# Altium integrated library Linear Technology Power Management Switching Regulator LT1074-LT8705.IntLib: 2252 symbols (part 42 of 148)
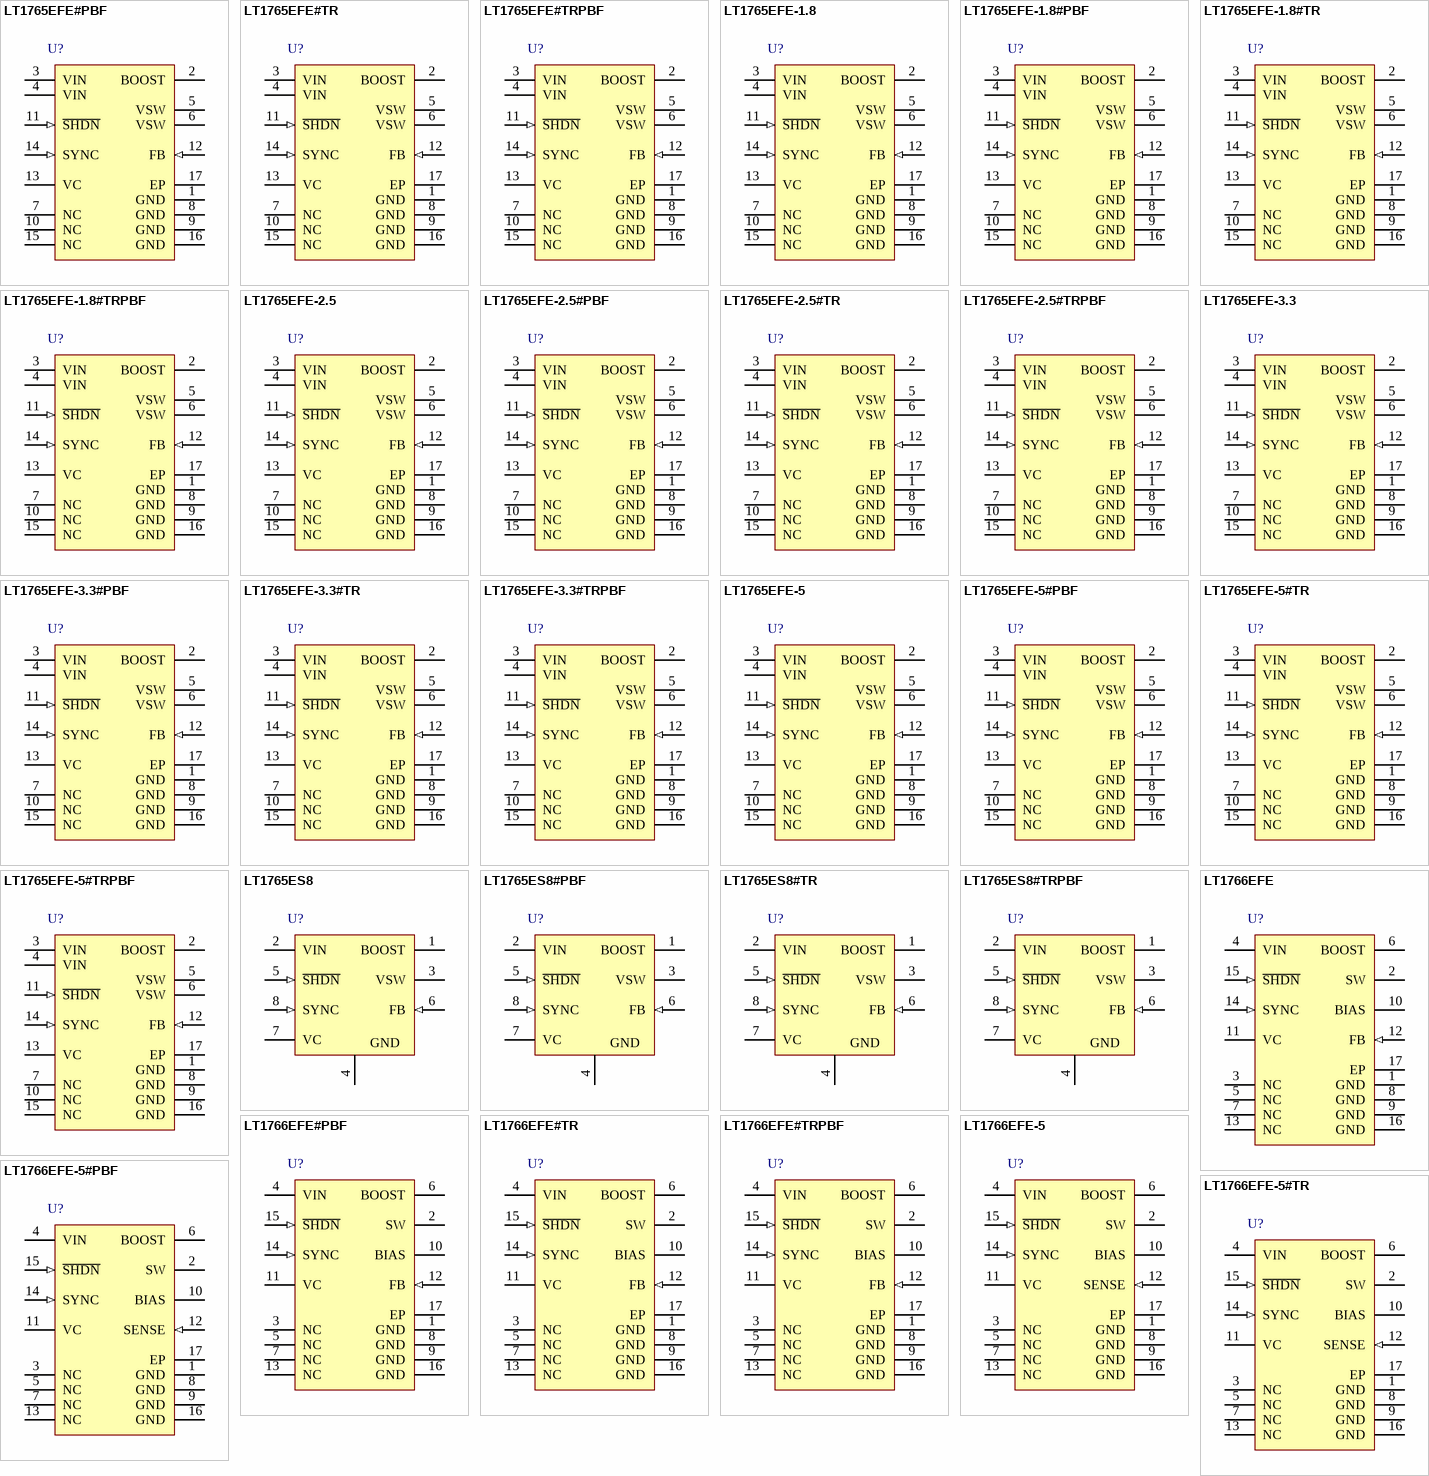
[diagram p112: symbols LT1765EFE#PBF to LT1766EFE-5#TR]

## LT1765EFE-5#PBF
designator U?
Monolithic 3 A, 1.25 MHz Step-Down Switching Regulator, 16-pin SOP (FE-16-EPV-BB), -40 to 125 degC, Pb-Free; Manufacturer: Linear Technology; PartNumber: LT1765EFE-5#PBF; Frequency Sync Range: 1.6MHz - 2MHz; Number of Outputs: 1; DatasheetVersion: Rev. D; PackageVersion: Rev. J, 11/2012; PackageReference: FE-16; PackageDescription: 16-Pin Plastic TSSOP, Body 5 x 4.4 mm, Pitch 0.65 mm; Supplier 1: Digi-Key; Supplier Part Number 1: LT1765EFE-5#PBF-ND; Supplier 2: Farnell; Supplier Part Number 2: 1663486; Supplier 3: Newark; Supplier Part Number 3: 57M6196; RoHS: TRUE; Mounting Technology: Surface Mount; ComponentLink1Description: Manufacturer URL; ComponentLink1URL: http://www.linear.com/; ComponentLink2Description: Datasheet; ComponentLink2URL: http://cds.linear.com/docs/en/datasheet/1765fd.pdf; ComponentLink3Description: Package Specification; ComponentLink3URL: http://cds.linear.com/docs/en/packaging/05081663__J_FE16(BB).pdf
footprint LT-FE-16-EPV-BB_N (SOP, 16-Leads, Body 5.1x4.5mm, Pitch 0.65mm, Thermal Pad 3.58x2.94mm, IPC Medium Density)
footprint LT-FE-16-EPV-BB_L (SOP, 16-Leads, Body 5.1x4.5mm, Pitch 0.65mm, Thermal Pad 3.58x2.94mm, IPC High Density)
footprint LT-FE-16-EPV-BB_M (SOP, 16-Leads, Body 5.1x4.5mm, Pitch 0.65mm, Thermal Pad 3.58x2.94mm, IPC Low Density)
pins: 1 GND (power) "The GND pin acts as the reference for the regulated output, so load regulation will suffer if the “ground?end of the load is not at the same voltage as the GND pin of the IC. This condition will occur when load curr(See Datasheet)", 2 BOOST "The BOOST pin is used to provide a drive voltage, higher than the input voltage, to the internal bipolar NPN power switch.", 3 VIN (power) "This is the collector of the on-chip power NPN switch. This pin powers the internal circuitry and internal regulator. At NPN switch on and off, high di/dt edges occur on this pin. Keep the external bypass capacitor and catch (See Datasheet)", 4 VIN (power) "This is the collector of the on-chip power NPN switch. This pin powers the internal circuitry and internal regulator. At NPN switch on and off, high di/dt edges occur on this pin. Keep the external bypass capacitor and catch (See Datasheet)", 5 VSW (power) "The switch pin is the emitter of the on-chip power NPN switch. This pin is driven up to the input pin voltage during switch on time. Inductor current drives the switch pin negative during switch off time. Negative voltage (See Datasheet)", 6 VSW (power) "The switch pin is the emitter of the on-chip power NPN switch. This pin is driven up to the input pin voltage during switch on time. Inductor current drives the switch pin negative during switch off time. Negative voltage (See Datasheet)", 7 NC, 8 GND (power) "The GND pin acts as the reference for the regulated output, so load regulation will suffer if the “ground?end of the load is not at the same voltage as the GND pin of the IC. This condition will occur when load curr(See Datasheet)", 9 GND (power) "The GND pin acts as the reference for the regulated output, so load regulation will suffer if the “ground?end of the load is not at the same voltage as the GND pin of the IC. This condition will occur when load curr(See Datasheet)", 10 NC, 11 ~{SHDN} (in) "The shutdown pin is used to turn off the regulator and to reduce input drain current to a few microamperes. The 1.33V threshold can function as an accurate undervoltage lockout (UVLO), preventing the regulator from operating (See Datasheet)", 12 FB (in) "The feedback pin is used to set output voltage using an external voltage divider (adjustable version) that generates 1.2V at the pin when connected to the desired output voltage. The fixed voltage 1.8V, 2.5V, 3.3V and 5V (See Datasheet)", 13 VC "The VC pin is the output of the error amplifier and the input of the peak switch current comparator. It is normally used for frequency compensation, but can do double duty as a current clamp or control loop override. This (See Datasheet)", 14 SYNC (in) "The sync pin is used to synchronize the internal oscillator to an external signal. It is directly logic compatible and can be driven with any signal between 20% and 80% duty cycle. The synchronizing range is from 1.6MHz to (See Datasheet)", 15 NC, 16 GND (power) "The GND pin acts as the reference for the regulated output, so load regulation will suffer if the “ground?end of the load is not at the same voltage as the GND pin of the IC. This condition will occur when load curr(See Datasheet)", 17 EP (power) "The exposed GND pad and/or GND pins of the package are directly attached to the internal tab. These pins/pad should be attached to a large copper area to reduce thermal resistance."

## LT1765EFE-5#TR
designator U?
Monolithic 3 A, 1.25 MHz Step-Down Switching Regulator, 16-pin SOP (FE-16-EPV-BB), -40 to 125 degC, Tape and Reel; Manufacturer: Linear Technology; PartNumber: LT1765EFE-5#TR; Frequency Sync Range: 1.6MHz - 2MHz; Number of Outputs: 1; DatasheetVersion: Rev. D; PackageVersion: Rev. J, 11/2012; PackageReference: FE-16; PackageDescription: 16-Pin Plastic TSSOP, Body 5 x 4.4 mm, Pitch 0.65 mm; Supplier 1: Digi-Key; Supplier Part Number 1: LT1765EFE-5#TR-ND; Packing: Tape and Reel; RoHS: FALSE; Mounting Technology: Surface Mount; ComponentLink1Description: Manufacturer URL; ComponentLink1URL: http://www.linear.com/; ComponentLink2Description: Datasheet; ComponentLink2URL: http://cds.linear.com/docs/en/datasheet/1765fd.pdf; ComponentLink3Description: Package Specification; ComponentLink3URL: http://cds.linear.com/docs/en/packaging/05081663__J_FE16(BB).pdf
footprint LT-FE-16-EPV-BB_N (SOP, 16-Leads, Body 5.1x4.5mm, Pitch 0.65mm, Thermal Pad 3.58x2.94mm, IPC Medium Density)
footprint LT-FE-16-EPV-BB_L (SOP, 16-Leads, Body 5.1x4.5mm, Pitch 0.65mm, Thermal Pad 3.58x2.94mm, IPC High Density)
footprint LT-FE-16-EPV-BB_M (SOP, 16-Leads, Body 5.1x4.5mm, Pitch 0.65mm, Thermal Pad 3.58x2.94mm, IPC Low Density)
pins: 1 GND (power) "The GND pin acts as the reference for the regulated output, so load regulation will suffer if the “ground?end of the load is not at the same voltage as the GND pin of the IC. This condition will occur when load curr(See Datasheet)", 2 BOOST "The BOOST pin is used to provide a drive voltage, higher than the input voltage, to the internal bipolar NPN power switch.", 3 VIN (power) "This is the collector of the on-chip power NPN switch. This pin powers the internal circuitry and internal regulator. At NPN switch on and off, high di/dt edges occur on this pin. Keep the external bypass capacitor and catch (See Datasheet)", 4 VIN (power) "This is the collector of the on-chip power NPN switch. This pin powers the internal circuitry and internal regulator. At NPN switch on and off, high di/dt edges occur on this pin. Keep the external bypass capacitor and catch (See Datasheet)", 5 VSW (power) "The switch pin is the emitter of the on-chip power NPN switch. This pin is driven up to the input pin voltage during switch on time. Inductor current drives the switch pin negative during switch off time. Negative voltage (See Datasheet)", 6 VSW (power) "The switch pin is the emitter of the on-chip power NPN switch. This pin is driven up to the input pin voltage during switch on time. Inductor current drives the switch pin negative during switch off time. Negative voltage (See Datasheet)", 7 NC, 8 GND (power) "The GND pin acts as the reference for the regulated output, so load regulation will suffer if the “ground?end of the load is not at the same voltage as the GND pin of the IC. This condition will occur when load curr(See Datasheet)", 9 GND (power) "The GND pin acts as the reference for the regulated output, so load regulation will suffer if the “ground?end of the load is not at the same voltage as the GND pin of the IC. This condition will occur when load curr(See Datasheet)", 10 NC, 11 ~{SHDN} (in) "The shutdown pin is used to turn off the regulator and to reduce input drain current to a few microamperes. The 1.33V threshold can function as an accurate undervoltage lockout (UVLO), preventing the regulator from operating (See Datasheet)", 12 FB (in) "The feedback pin is used to set output voltage using an external voltage divider (adjustable version) that generates 1.2V at the pin when connected to the desired output voltage. The fixed voltage 1.8V, 2.5V, 3.3V and 5V (See Datasheet)", 13 VC "The VC pin is the output of the error amplifier and the input of the peak switch current comparator. It is normally used for frequency compensation, but can do double duty as a current clamp or control loop override. This (See Datasheet)", 14 SYNC (in) "The sync pin is used to synchronize the internal oscillator to an external signal. It is directly logic compatible and can be driven with any signal between 20% and 80% duty cycle. The synchronizing range is from 1.6MHz to (See Datasheet)", 15 NC, 16 GND (power) "The GND pin acts as the reference for the regulated output, so load regulation will suffer if the “ground?end of the load is not at the same voltage as the GND pin of the IC. This condition will occur when load curr(See Datasheet)", 17 EP (power) "The exposed GND pad and/or GND pins of the package are directly attached to the internal tab. These pins/pad should be attached to a large copper area to reduce thermal resistance."

## LT1765EFE-5#TRPBF
designator U?
Monolithic 3 A, 1.25 MHz Step-Down Switching Regulator, 16-pin SOP (FE-16-EPV-BB), -40 to 125 degC, Pb-Free, Tape and Reel; Manufacturer: Linear Technology; PartNumber: LT1765EFE-5#TRPBF; Frequency Sync Range: 1.6MHz - 2MHz; Number of Outputs: 1; DatasheetVersion: Rev. D; PackageVersion: Rev. J, 11/2012; PackageReference: FE-16; PackageDescription: 16-Pin Plastic TSSOP, Body 5 x 4.4 mm, Pitch 0.65 mm; Supplier 1: Digi-Key; Supplier Part Number 1: LT1765EFE-5#TRPBF-ND; Packing: Tape and Reel; RoHS: TRUE; Mounting Technology: Surface Mount; ComponentLink1Description: Manufacturer URL; ComponentLink1URL: http://www.linear.com/; ComponentLink2Description: Datasheet; ComponentLink2URL: http://cds.linear.com/docs/en/datasheet/1765fd.pdf; ComponentLink3Description: Package Specification; ComponentLink3URL: http://cds.linear.com/docs/en/packaging/05081663__J_FE16(BB).pdf
footprint LT-FE-16-EPV-BB_N (SOP, 16-Leads, Body 5.1x4.5mm, Pitch 0.65mm, Thermal Pad 3.58x2.94mm, IPC Medium Density)
footprint LT-FE-16-EPV-BB_L (SOP, 16-Leads, Body 5.1x4.5mm, Pitch 0.65mm, Thermal Pad 3.58x2.94mm, IPC High Density)
footprint LT-FE-16-EPV-BB_M (SOP, 16-Leads, Body 5.1x4.5mm, Pitch 0.65mm, Thermal Pad 3.58x2.94mm, IPC Low Density)
pins: 1 GND (power) "The GND pin acts as the reference for the regulated output, so load regulation will suffer if the “ground?end of the load is not at the same voltage as the GND pin of the IC. This condition will occur when load curr(See Datasheet)", 2 BOOST "The BOOST pin is used to provide a drive voltage, higher than the input voltage, to the internal bipolar NPN power switch.", 3 VIN (power) "This is the collector of the on-chip power NPN switch. This pin powers the internal circuitry and internal regulator. At NPN switch on and off, high di/dt edges occur on this pin. Keep the external bypass capacitor and catch (See Datasheet)", 4 VIN (power) "This is the collector of the on-chip power NPN switch. This pin powers the internal circuitry and internal regulator. At NPN switch on and off, high di/dt edges occur on this pin. Keep the external bypass capacitor and catch (See Datasheet)", 5 VSW (power) "The switch pin is the emitter of the on-chip power NPN switch. This pin is driven up to the input pin voltage during switch on time. Inductor current drives the switch pin negative during switch off time. Negative voltage (See Datasheet)", 6 VSW (power) "The switch pin is the emitter of the on-chip power NPN switch. This pin is driven up to the input pin voltage during switch on time. Inductor current drives the switch pin negative during switch off time. Negative voltage (See Datasheet)", 7 NC, 8 GND (power) "The GND pin acts as the reference for the regulated output, so load regulation will suffer if the “ground?end of the load is not at the same voltage as the GND pin of the IC. This condition will occur when load curr(See Datasheet)", 9 GND (power) "The GND pin acts as the reference for the regulated output, so load regulation will suffer if the “ground?end of the load is not at the same voltage as the GND pin of the IC. This condition will occur when load curr(See Datasheet)", 10 NC, 11 ~{SHDN} (in) "The shutdown pin is used to turn off the regulator and to reduce input drain current to a few microamperes. The 1.33V threshold can function as an accurate undervoltage lockout (UVLO), preventing the regulator from operating (See Datasheet)", 12 FB (in) "The feedback pin is used to set output voltage using an external voltage divider (adjustable version) that generates 1.2V at the pin when connected to the desired output voltage. The fixed voltage 1.8V, 2.5V, 3.3V and 5V (See Datasheet)", 13 VC "The VC pin is the output of the error amplifier and the input of the peak switch current comparator. It is normally used for frequency compensation, but can do double duty as a current clamp or control loop override. This (See Datasheet)", 14 SYNC (in) "The sync pin is used to synchronize the internal oscillator to an external signal. It is directly logic compatible and can be driven with any signal between 20% and 80% duty cycle. The synchronizing range is from 1.6MHz to (See Datasheet)", 15 NC, 16 GND (power) "The GND pin acts as the reference for the regulated output, so load regulation will suffer if the “ground?end of the load is not at the same voltage as the GND pin of the IC. This condition will occur when load curr(See Datasheet)", 17 EP (power) "The exposed GND pad and/or GND pins of the package are directly attached to the internal tab. These pins/pad should be attached to a large copper area to reduce thermal resistance."

## LT1765ES8
designator U?
Monolithic 3 A, 1.25 MHz Step-Down Switching Regulator, 8-pin SOIC (S8-8), -40 to 125 degC; Manufacturer: Linear Technology; PartNumber: LT1765ES8; Frequency Sync Range: 1.6MHz - 2MHz; Number of Outputs: 1; DatasheetVersion: Rev. D; PackageVersion: Rev. G, 03/2012; PackageReference: S8-8; PackageDescription: 8-Pin Plastic Small Outline (Narrow .150 Inch), Body 4.9 x 3.9 mm, Pitch 1.27 mm; Supplier 1: Digi-Key; Supplier Part Number 1: LT1765ES8-ND; Supplier 2: Newark; Supplier Part Number 2: 57M6202; RoHS: FALSE; Mounting Technology: Surface Mount; ComponentLink1Description: Manufacturer URL; ComponentLink1URL: http://www.linear.com/; ComponentLink2Description: Datasheet; ComponentLink2URL: http://cds.linear.com/docs/en/datasheet/1765fd.pdf; ComponentLink3Description: Package Specification; ComponentLink3URL: http://cds.linear.com/docs/en/packaging/05081610_G_SO8.pdf
footprint LT-S8-8_N (SOIC, 8-Leads, Body 5x4mm, Pitch 1.27mm, IPC Medium Density)
footprint LT-S8-8_L (SOIC, 8-Leads, Body 5x4mm, Pitch 1.27mm, IPC High Density)
footprint LT-S8-8_M (SOIC, 8-Leads, Body 5x4mm, Pitch 1.27mm, IPC Low Density)
pins: 1 BOOST "The BOOST pin is used to provide a drive voltage, higher than the input voltage, to the internal bipolar NPN  power switch.", 2 VIN (power) "This is the collector of the on-chip power NPN switch. This pin powers the internal circuitry and internal regulator. At NPN switch on and off, high di/dt edges occur on this pin. Keep the external bypass capacitor and catch (See Datasheet)", 3 VSW (power) "The switch pin is the emitter of the on-chip power NPN switch. This pin is driven up to the input pin voltage during switch on time. Inductor current drives the switch pin negative during switch off time. Negative voltage (See Datasheet)", 4 GND (power) "The GND pin acts as the reference for the regulated output, so load regulation will suffer if the “ground?end of the load is not at the same voltage as the GND pin of the IC. This condition will occur when load curr(See Datasheet)", 5 ~{SHDN} (in) "The shutdown pin is used to turn off the regulator and to reduce input drain current to a few microamperes. The 1.33V threshold can function as an accurate undervoltage lockout (UVLO), preventing the regulator from operating (See Datasheet)", 6 FB (in) "The feedback pin is used to set output voltage using an external voltage divider (adjustable version) that generates 1.2V at the pin when connected to the desired output voltage. The fixed voltage 1.8V, 2.5V, 3.3V and 5(See Datasheet)", 7 VC "The VC pin is the output of the error amplifier and the input of the peak switch current comparator. It is normally used for frequency compensation, but can do double duty as a current clamp or control loop override. Thi(See Datasheet)", 8 SYNC (in) "The sync pin is used to synchronize the internal oscillator to an external signal. It is directly logic compatible and can be driven with any signal between 20% and  80% duty cycle. The synchronizing range is from 1.6MHz  to (See Datasheet)"

## LT1765ES8#PBF
designator U?
Monolithic 3 A, 1.25 MHz Step-Down Switching Regulator, 8-pin SOIC (S8-8), -40 to 125 degC, Pb-Free; Manufacturer: Linear Technology; PartNumber: LT1765ES8#PBF; Frequency Sync Range: 1.6MHz - 2MHz; Number of Outputs: 1; DatasheetVersion: Rev. D; PackageVersion: Rev. G, 03/2012; PackageReference: S8-8; PackageDescription: 8-Pin Plastic Small Outline (Narrow .150 Inch), Body 4.9 x 3.9 mm, Pitch 1.27 mm; Supplier 1: Digi-Key; Supplier Part Number 1: LT1765ES8#PBF-ND; Supplier 2: Farnell; Supplier Part Number 2: 1273783; Supplier 3: Newark; Supplier Part Number 3: 57M6203; RoHS: TRUE; Mounting Technology: Surface Mount; ComponentLink1Description: Manufacturer URL; ComponentLink1URL: http://www.linear.com/; ComponentLink2Description: Datasheet; ComponentLink2URL: http://cds.linear.com/docs/en/datasheet/1765fd.pdf; ComponentLink3Description: Package Specification; ComponentLink3URL: http://cds.linear.com/docs/en/packaging/05081610_G_SO8.pdf
footprint LT-S8-8_N (SOIC, 8-Leads, Body 5x4mm, Pitch 1.27mm, IPC Medium Density)
footprint LT-S8-8_L (SOIC, 8-Leads, Body 5x4mm, Pitch 1.27mm, IPC High Density)
footprint LT-S8-8_M (SOIC, 8-Leads, Body 5x4mm, Pitch 1.27mm, IPC Low Density)
pins: 1 BOOST "The BOOST pin is used to provide a drive voltage, higher than the input voltage, to the internal bipolar NPN  power switch.", 2 VIN (power) "This is the collector of the on-chip power NPN switch. This pin powers the internal circuitry and internal regulator. At NPN switch on and off, high di/dt edges occur on this pin. Keep the external bypass capacitor and catch (See Datasheet)", 3 VSW (power) "The switch pin is the emitter of the on-chip power NPN switch. This pin is driven up to the input pin voltage during switch on time. Inductor current drives the switch pin negative during switch off time. Negative voltage (See Datasheet)", 4 GND (power) "The GND pin acts as the reference for the regulated output, so load regulation will suffer if the “ground?end of the load is not at the same voltage as the GND pin of the IC. This condition will occur when load curr(See Datasheet)", 5 ~{SHDN} (in) "The shutdown pin is used to turn off the regulator and to reduce input drain current to a few microamperes. The 1.33V threshold can function as an accurate undervoltage lockout (UVLO), preventing the regulator from operating (See Datasheet)", 6 FB (in) "The feedback pin is used to set output voltage using an external voltage divider (adjustable version) that generates 1.2V at the pin when connected to the desired output voltage. The fixed voltage 1.8V, 2.5V, 3.3V and 5(See Datasheet)", 7 VC "The VC pin is the output of the error amplifier and the input of the peak switch current comparator. It is normally used for frequency compensation, but can do double duty as a current clamp or control loop override. Thi(See Datasheet)", 8 SYNC (in) "The sync pin is used to synchronize the internal oscillator to an external signal. It is directly logic compatible and can be driven with any signal between 20% and  80% duty cycle. The synchronizing range is from 1.6MHz  to (See Datasheet)"

## LT1765ES8#TR
designator U?
Monolithic 3 A, 1.25 MHz Step-Down Switching Regulator, 8-pin SOIC (S8-8), -40 to 125 degC, Tape and Reel; Manufacturer: Linear Technology; PartNumber: LT1765ES8#TR; Frequency Sync Range: 1.6MHz - 2MHz; Number of Outputs: 1; DatasheetVersion: Rev. D; PackageVersion: Rev. G, 03/2012; PackageReference: S8-8; PackageDescription: 8-Pin Plastic Small Outline (Narrow .150 Inch), Body 4.9 x 3.9 mm, Pitch 1.27 mm; Supplier 1: Digi-Key; Supplier Part Number 1: LT1765ES8#TR-ND; Supplier 2: Newark; Supplier Part Number 2: 57M6204; Packing: Tape and Reel; RoHS: FALSE; Mounting Technology: Surface Mount; ComponentLink1Description: Manufacturer URL; ComponentLink1URL: http://www.linear.com/; ComponentLink2Description: Datasheet; ComponentLink2URL: http://cds.linear.com/docs/en/datasheet/1765fd.pdf; ComponentLink3Description: Package Specification; ComponentLink3URL: http://cds.linear.com/docs/en/packaging/05081610_G_SO8.pdf
footprint LT-S8-8_N (SOIC, 8-Leads, Body 5x4mm, Pitch 1.27mm, IPC Medium Density)
footprint LT-S8-8_L (SOIC, 8-Leads, Body 5x4mm, Pitch 1.27mm, IPC High Density)
footprint LT-S8-8_M (SOIC, 8-Leads, Body 5x4mm, Pitch 1.27mm, IPC Low Density)
pins: 1 BOOST "The BOOST pin is used to provide a drive voltage, higher than the input voltage, to the internal bipolar NPN  power switch.", 2 VIN (power) "This is the collector of the on-chip power NPN switch. This pin powers the internal circuitry and internal regulator. At NPN switch on and off, high di/dt edges occur on this pin. Keep the external bypass capacitor and catch (See Datasheet)", 3 VSW (power) "The switch pin is the emitter of the on-chip power NPN switch. This pin is driven up to the input pin voltage during switch on time. Inductor current drives the switch pin negative during switch off time. Negative voltage (See Datasheet)", 4 GND (power) "The GND pin acts as the reference for the regulated output, so load regulation will suffer if the “ground?end of the load is not at the same voltage as the GND pin of the IC. This condition will occur when load curr(See Datasheet)", 5 ~{SHDN} (in) "The shutdown pin is used to turn off the regulator and to reduce input drain current to a few microamperes. The 1.33V threshold can function as an accurate undervoltage lockout (UVLO), preventing the regulator from operating (See Datasheet)", 6 FB (in) "The feedback pin is used to set output voltage using an external voltage divider (adjustable version) that generates 1.2V at the pin when connected to the desired output voltage. The fixed voltage 1.8V, 2.5V, 3.3V and 5(See Datasheet)", 7 VC "The VC pin is the output of the error amplifier and the input of the peak switch current comparator. It is normally used for frequency compensation, but can do double duty as a current clamp or control loop override. Thi(See Datasheet)", 8 SYNC (in) "The sync pin is used to synchronize the internal oscillator to an external signal. It is directly logic compatible and can be driven with any signal between 20% and  80% duty cycle. The synchronizing range is from 1.6MHz  to (See Datasheet)"

## LT1765ES8#TRPBF
designator U?
Monolithic 3 A, 1.25 MHz Step-Down Switching Regulator, 8-pin SOIC (S8-8), -40 to 125 degC, Pb-Free, Tape and Reel; Manufacturer: Linear Technology; PartNumber: LT1765ES8#TRPBF; Frequency Sync Range: 1.6MHz - 2MHz; Number of Outputs: 1; DatasheetVersion: Rev. D; PackageVersion: Rev. G, 03/2012; PackageReference: S8-8; PackageDescription: 8-Pin Plastic Small Outline (Narrow .150 Inch), Body 4.9 x 3.9 mm, Pitch 1.27 mm; Supplier 1: Digi-Key; Supplier Part Number 1: LT1765ES8#TRPBF-ND; Supplier 2: Newark; Supplier Part Number 2: 57M6205; Packing: Tape and Reel; RoHS: TRUE; Mounting Technology: Surface Mount; ComponentLink1Description: Manufacturer URL; ComponentLink1URL: http://www.linear.com/; ComponentLink2Description: Datasheet; ComponentLink2URL: http://cds.linear.com/docs/en/datasheet/1765fd.pdf; ComponentLink3Description: Package Specification; ComponentLink3URL: http://cds.linear.com/docs/en/packaging/05081610_G_SO8.pdf
footprint LT-S8-8_N (SOIC, 8-Leads, Body 5x4mm, Pitch 1.27mm, IPC Medium Density)
footprint LT-S8-8_L (SOIC, 8-Leads, Body 5x4mm, Pitch 1.27mm, IPC High Density)
footprint LT-S8-8_M (SOIC, 8-Leads, Body 5x4mm, Pitch 1.27mm, IPC Low Density)
pins: 1 BOOST "The BOOST pin is used to provide a drive voltage, higher than the input voltage, to the internal bipolar NPN  power switch.", 2 VIN (power) "This is the collector of the on-chip power NPN switch. This pin powers the internal circuitry and internal regulator. At NPN switch on and off, high di/dt edges occur on this pin. Keep the external bypass capacitor and catch (See Datasheet)", 3 VSW (power) "The switch pin is the emitter of the on-chip power NPN switch. This pin is driven up to the input pin voltage during switch on time. Inductor current drives the switch pin negative during switch off time. Negative voltage (See Datasheet)", 4 GND (power) "The GND pin acts as the reference for the regulated output, so load regulation will suffer if the “ground?end of the load is not at the same voltage as the GND pin of the IC. This condition will occur when load curr(See Datasheet)", 5 ~{SHDN} (in) "The shutdown pin is used to turn off the regulator and to reduce input drain current to a few microamperes. The 1.33V threshold can function as an accurate undervoltage lockout (UVLO), preventing the regulator from operating (See Datasheet)", 6 FB (in) "The feedback pin is used to set output voltage using an external voltage divider (adjustable version) that generates 1.2V at the pin when connected to the desired output voltage. The fixed voltage 1.8V, 2.5V, 3.3V and 5(See Datasheet)", 7 VC "The VC pin is the output of the error amplifier and the input of the peak switch current comparator. It is normally used for frequency compensation, but can do double duty as a current clamp or control loop override. Thi(See Datasheet)", 8 SYNC (in) "The sync pin is used to synchronize the internal oscillator to an external signal. It is directly logic compatible and can be driven with any signal between 20% and  80% duty cycle. The synchronizing range is from 1.6MHz  to (See Datasheet)"

## LT1766EFE
designator U?
1.5 A, 200 kHz Step-Down Switching Regulator, 16-pin SOP (FE-16-EPV-BB), 0 to 125 degC; Manufacturer: Linear Technology; PartNumber: LT1766EFE; Frequency Sync Range: 228kHz - 700kHz; Number of Outputs: 1; DatasheetVersion: Rev. C; PackageVersion: Rev. J, 11/2012; PackageReference: FE-16; PackageDescription: 16-Pin Plastic TSSOP, Body 5 x 4.4 mm, Pitch 0.65 mm; Supplier 1: Digi-Key; Supplier Part Number 1: LT1766EFE-ND; RoHS: FALSE; Mounting Technology: Surface Mount; ComponentLink1Description: Manufacturer URL; ComponentLink1URL: http://www.linear.com/; ComponentLink2Description: Datasheet; ComponentLink2URL: http://cds.linear.com/docs/en/datasheet/1766fc.pdf; ComponentLink3Description: Package Specification; ComponentLink3URL: http://cds.linear.com/docs/en/packaging/05081663__J_FE16(BB).pdf
footprint LT-FE-16-EPV-BB_N (SOP, 16-Leads, Body 5.1x4.5mm, Pitch 0.65mm, Thermal Pad 3.58x2.94mm, IPC Medium Density)
footprint LT-FE-16-EPV-BB_L (SOP, 16-Leads, Body 5.1x4.5mm, Pitch 0.65mm, Thermal Pad 3.58x2.94mm, IPC High Density)
footprint LT-FE-16-EPV-BB_M (SOP, 16-Leads, Body 5.1x4.5mm, Pitch 0.65mm, Thermal Pad 3.58x2.94mm, IPC Low Density)
pins: 1 GND (power) "The GND pin connections act as the reference for the regulated output, so load regulation will suffer if the ground end of the load is not at the  same voltage as the GND pins of the IC. This condition will occur when load (See Datasheet)", 2 SW (power) "The switch pin is the emitter of the on-chip power NPN switch. This pin is driven up to the input pin voltage during switch on-time. Inductor current drives the switch pin negative during switch off-time. Negative voltage is (See Datasheet)", 3 NC "No Connection.", 4 VIN (power) "This is the collector of the on-chip power NPN switch. VIN powers the internal control circuitry when a voltage on the BIAS pin is not present. High dI/dt edges occur on this pin during switch turn on and off. Keep the path (See Datasheet)", 5 NC "No Connection.", 6 BOOST "The BOOST pin is used to provide a drive voltage, higher than the input voltage, to the internal bipolar NPN power switch. Without this added voltage, the typical switch voltage loss would be about 1.5V. The additional BOOST (See Datasheet)", 7 NC "No Connection.", 8 GND (power) "The GND pin connections act as the reference for the regulated output, so load regulation will suffer if the ground end of the load is not at the  same voltage as the GND pins of the IC. This condition will occur when load (See Datasheet)", 9 GND (power) "The GND pin connections act as the reference for the regulated output, so load regulation will suffer if the ground end of the load is not at the  same voltage as the GND pins of the IC. This condition will occur when load (See Datasheet)", 10 BIAS (power) "The BIAS pin is used to improve ef?ciency when operating at higher input voltages and light load current. Connecting this pin to the regulated output voltage forces most of the internal circuitry to draw its operating (See Datasheet)", 11 VC, 12 FB (in) "The feedback pin is used to set the output voltage using an external voltage divider that generates 1.22V at the pin for the desired output voltage. The 5V fixed output voltage parts have the divider included on the chip and (See Datasheet)", 13 NC "No Connection.", 14 SYNC (in) "The SYNC pin is used to synchronize the internal oscillator to an external signal. It is directly logic compatible and can be driven with any signal between 10% and 90% duty cycle. The synchronizing range is equal to initial (See Datasheet)", 15 ~{SHDN} (in) "The S\H\D\N\ pin is used to turn off the regulator and to reduce input drain current to a few microamperes. This pin has two thresholds: one at 2.38V to disable switching and a second at 0.4V to force complete  micropower (See Datasheet)", 16 GND (power) "The GND pin connections act as the reference for the regulated output, so load regulation will suffer if the ground end of the load is not at the  same voltage as the GND pins of the IC. This condition will occur when load (See Datasheet)", 17 EP (power) "The GND pin connections act as the reference for the regulated output, so load regulation will suffer if the ground end of the load is not at the  same voltage as the GND pins of the IC. This condition will occur when load (See Datasheet)"

## LT1766EFE#PBF
designator U?
1.5 A, 200 kHz Step-Down Switching Regulator, 16-pin SOP (FE-16-EPV-BB), 0 to 125 degC, Pb-Free; Manufacturer: Linear Technology; PartNumber: LT1766EFE#PBF; Frequency Sync Range: 228kHz - 700kHz; Number of Outputs: 1; DatasheetVersion: Rev. C; PackageVersion: Rev. J, 11/2012; PackageReference: FE-16; PackageDescription: 16-Pin Plastic TSSOP, Body 5 x 4.4 mm, Pitch 0.65 mm; Supplier 1: Digi-Key; Supplier Part Number 1: LT1766EFE#PBF-ND; Supplier 2: Farnell; Supplier Part Number 2: 1273785; Supplier 3: Newark; Supplier Part Number 3: 57M6211; RoHS: TRUE; Mounting Technology: Surface Mount; ComponentLink1Description: Manufacturer URL; ComponentLink1URL: http://www.linear.com/; ComponentLink2Description: Datasheet; ComponentLink2URL: http://cds.linear.com/docs/en/datasheet/1766fc.pdf; ComponentLink3Description: Package Specification; ComponentLink3URL: http://cds.linear.com/docs/en/packaging/05081663__J_FE16(BB).pdf
footprint LT-FE-16-EPV-BB_N (SOP, 16-Leads, Body 5.1x4.5mm, Pitch 0.65mm, Thermal Pad 3.58x2.94mm, IPC Medium Density)
footprint LT-FE-16-EPV-BB_L (SOP, 16-Leads, Body 5.1x4.5mm, Pitch 0.65mm, Thermal Pad 3.58x2.94mm, IPC High Density)
footprint LT-FE-16-EPV-BB_M (SOP, 16-Leads, Body 5.1x4.5mm, Pitch 0.65mm, Thermal Pad 3.58x2.94mm, IPC Low Density)
pins: 1 GND (power) "The GND pin connections act as the reference for the regulated output, so load regulation will suffer if the ground end of the load is not at the  same voltage as the GND pins of the IC. This condition will occur when load (See Datasheet)", 2 SW (power) "The switch pin is the emitter of the on-chip power NPN switch. This pin is driven up to the input pin voltage during switch on-time. Inductor current drives the switch pin negative during switch off-time. Negative voltage is (See Datasheet)", 3 NC "No Connection.", 4 VIN (power) "This is the collector of the on-chip power NPN switch. VIN powers the internal control circuitry when a voltage on the BIAS pin is not present. High dI/dt edges occur on this pin during switch turn on and off. Keep the path (See Datasheet)", 5 NC "No Connection.", 6 BOOST "The BOOST pin is used to provide a drive voltage, higher than the input voltage, to the internal bipolar NPN power switch. Without this added voltage, the typical switch voltage loss would be about 1.5V. The additional BOOST (See Datasheet)", 7 NC "No Connection.", 8 GND (power) "The GND pin connections act as the reference for the regulated output, so load regulation will suffer if the ground end of the load is not at the  same voltage as the GND pins of the IC. This condition will occur when load (See Datasheet)", 9 GND (power) "The GND pin connections act as the reference for the regulated output, so load regulation will suffer if the ground end of the load is not at the  same voltage as the GND pins of the IC. This condition will occur when load (See Datasheet)", 10 BIAS (power) "The BIAS pin is used to improve ef?ciency when operating at higher input voltages and light load current. Connecting this pin to the regulated output voltage forces most of the internal circuitry to draw its operating (See Datasheet)", 11 VC, 12 FB (in) "The feedback pin is used to set the output voltage using an external voltage divider that generates 1.22V at the pin for the desired output voltage. The 5V fixed output voltage parts have the divider included on the chip and (See Datasheet)", 13 NC "No Connection.", 14 SYNC (in) "The SYNC pin is used to synchronize the internal oscillator to an external signal. It is directly logic compatible and can be driven with any signal between 10% and 90% duty cycle. The synchronizing range is equal to initial (See Datasheet)", 15 ~{SHDN} (in) "The S\H\D\N\ pin is used to turn off the regulator and to reduce input drain current to a few microamperes. This pin has two thresholds: one at 2.38V to disable switching and a second at 0.4V to force complete  micropower (See Datasheet)", 16 GND (power) "The GND pin connections act as the reference for the regulated output, so load regulation will suffer if the ground end of the load is not at the  same voltage as the GND pins of the IC. This condition will occur when load (See Datasheet)", 17 EP (power) "The GND pin connections act as the reference for the regulated output, so load regulation will suffer if the ground end of the load is not at the  same voltage as the GND pins of the IC. This condition will occur when load (See Datasheet)"

## LT1766EFE#TR
designator U?
1.5 A, 200 kHz Step-Down Switching Regulator, 16-pin SOP (FE-16-EPV-BB), 0 to 125 degC, Tape and Reel; Manufacturer: Linear Technology; PartNumber: LT1766EFE#TR; Frequency Sync Range: 228kHz - 700kHz; Number of Outputs: 1; DatasheetVersion: Rev. C; PackageVersion: Rev. J, 11/2012; PackageReference: FE-16; PackageDescription: 16-Pin Plastic TSSOP, Body 5 x 4.4 mm, Pitch 0.65 mm; Supplier 1: Digi-Key; Supplier Part Number 1: LT1766EFE#TR-ND; Packing: Tape and Reel; RoHS: FALSE; Mounting Technology: Surface Mount; ComponentLink1Description: Manufacturer URL; ComponentLink1URL: http://www.linear.com/; ComponentLink2Description: Datasheet; ComponentLink2URL: http://cds.linear.com/docs/en/datasheet/1766fc.pdf; ComponentLink3Description: Package Specification; ComponentLink3URL: http://cds.linear.com/docs/en/packaging/05081663__J_FE16(BB).pdf
footprint LT-FE-16-EPV-BB_N (SOP, 16-Leads, Body 5.1x4.5mm, Pitch 0.65mm, Thermal Pad 3.58x2.94mm, IPC Medium Density)
footprint LT-FE-16-EPV-BB_L (SOP, 16-Leads, Body 5.1x4.5mm, Pitch 0.65mm, Thermal Pad 3.58x2.94mm, IPC High Density)
footprint LT-FE-16-EPV-BB_M (SOP, 16-Leads, Body 5.1x4.5mm, Pitch 0.65mm, Thermal Pad 3.58x2.94mm, IPC Low Density)
pins: 1 GND (power) "The GND pin connections act as the reference for the regulated output, so load regulation will suffer if the ground end of the load is not at the  same voltage as the GND pins of the IC. This condition will occur when load (See Datasheet)", 2 SW (power) "The switch pin is the emitter of the on-chip power NPN switch. This pin is driven up to the input pin voltage during switch on-time. Inductor current drives the switch pin negative during switch off-time. Negative voltage is (See Datasheet)", 3 NC "No Connection.", 4 VIN (power) "This is the collector of the on-chip power NPN switch. VIN powers the internal control circuitry when a voltage on the BIAS pin is not present. High dI/dt edges occur on this pin during switch turn on and off. Keep the path (See Datasheet)", 5 NC "No Connection.", 6 BOOST "The BOOST pin is used to provide a drive voltage, higher than the input voltage, to the internal bipolar NPN power switch. Without this added voltage, the typical switch voltage loss would be about 1.5V. The additional BOOST (See Datasheet)", 7 NC "No Connection.", 8 GND (power) "The GND pin connections act as the reference for the regulated output, so load regulation will suffer if the ground end of the load is not at the  same voltage as the GND pins of the IC. This condition will occur when load (See Datasheet)", 9 GND (power) "The GND pin connections act as the reference for the regulated output, so load regulation will suffer if the ground end of the load is not at the  same voltage as the GND pins of the IC. This condition will occur when load (See Datasheet)", 10 BIAS (power) "The BIAS pin is used to improve ef?ciency when operating at higher input voltages and light load current. Connecting this pin to the regulated output voltage forces most of the internal circuitry to draw its operating (See Datasheet)", 11 VC, 12 FB (in) "The feedback pin is used to set the output voltage using an external voltage divider that generates 1.22V at the pin for the desired output voltage. The 5V fixed output voltage parts have the divider included on the chip and (See Datasheet)", 13 NC "No Connection.", 14 SYNC (in) "The SYNC pin is used to synchronize the internal oscillator to an external signal. It is directly logic compatible and can be driven with any signal between 10% and 90% duty cycle. The synchronizing range is equal to initial (See Datasheet)", 15 ~{SHDN} (in) "The S\H\D\N\ pin is used to turn off the regulator and to reduce input drain current to a few microamperes. This pin has two thresholds: one at 2.38V to disable switching and a second at 0.4V to force complete  micropower (See Datasheet)", 16 GND (power) "The GND pin connections act as the reference for the regulated output, so load regulation will suffer if the ground end of the load is not at the  same voltage as the GND pins of the IC. This condition will occur when load (See Datasheet)", 17 EP (power) "The GND pin connections act as the reference for the regulated output, so load regulation will suffer if the ground end of the load is not at the  same voltage as the GND pins of the IC. This condition will occur when load (See Datasheet)"

## LT1766EFE#TRPBF
designator U?
1.5 A, 200 kHz Step-Down Switching Regulator, 16-pin SOP (FE-16-EPV-BB), 0 to 125 degC, Pb-Free, Tape and Reel; Manufacturer: Linear Technology; PartNumber: LT1766EFE#TRPBF; Frequency Sync Range: 228kHz - 700kHz; Number of Outputs: 1; DatasheetVersion: Rev. C; PackageVersion: Rev. J, 11/2012; PackageReference: FE-16; PackageDescription: 16-Pin Plastic TSSOP, Body 5 x 4.4 mm, Pitch 0.65 mm; Supplier 1: Digi-Key; Supplier Part Number 1: LT1766EFE#TRPBF-ND; Supplier 2: Newark; Supplier Part Number 2: 57M6213; Packing: Tape and Reel; RoHS: TRUE; Mounting Technology: Surface Mount; ComponentLink1Description: Manufacturer URL; ComponentLink1URL: http://www.linear.com/; ComponentLink2Description: Datasheet; ComponentLink2URL: http://cds.linear.com/docs/en/datasheet/1766fc.pdf; ComponentLink3Description: Package Specification; ComponentLink3URL: http://cds.linear.com/docs/en/packaging/05081663__J_FE16(BB).pdf
footprint LT-FE-16-EPV-BB_N (SOP, 16-Leads, Body 5.1x4.5mm, Pitch 0.65mm, Thermal Pad 3.58x2.94mm, IPC Medium Density)
footprint LT-FE-16-EPV-BB_L (SOP, 16-Leads, Body 5.1x4.5mm, Pitch 0.65mm, Thermal Pad 3.58x2.94mm, IPC High Density)
footprint LT-FE-16-EPV-BB_M (SOP, 16-Leads, Body 5.1x4.5mm, Pitch 0.65mm, Thermal Pad 3.58x2.94mm, IPC Low Density)
pins: 1 GND (power) "The GND pin connections act as the reference for the regulated output, so load regulation will suffer if the ground end of the load is not at the  same voltage as the GND pins of the IC. This condition will occur when load (See Datasheet)", 2 SW (power) "The switch pin is the emitter of the on-chip power NPN switch. This pin is driven up to the input pin voltage during switch on-time. Inductor current drives the switch pin negative during switch off-time. Negative voltage is (See Datasheet)", 3 NC "No Connection.", 4 VIN (power) "This is the collector of the on-chip power NPN switch. VIN powers the internal control circuitry when a voltage on the BIAS pin is not present. High dI/dt edges occur on this pin during switch turn on and off. Keep the path (See Datasheet)", 5 NC "No Connection.", 6 BOOST "The BOOST pin is used to provide a drive voltage, higher than the input voltage, to the internal bipolar NPN power switch. Without this added voltage, the typical switch voltage loss would be about 1.5V. The additional BOOST (See Datasheet)", 7 NC "No Connection.", 8 GND (power) "The GND pin connections act as the reference for the regulated output, so load regulation will suffer if the ground end of the load is not at the  same voltage as the GND pins of the IC. This condition will occur when load (See Datasheet)", 9 GND (power) "The GND pin connections act as the reference for the regulated output, so load regulation will suffer if the ground end of the load is not at the  same voltage as the GND pins of the IC. This condition will occur when load (See Datasheet)", 10 BIAS (power) "The BIAS pin is used to improve ef?ciency when operating at higher input voltages and light load current. Connecting this pin to the regulated output voltage forces most of the internal circuitry to draw its operating (See Datasheet)", 11 VC, 12 FB (in) "The feedback pin is used to set the output voltage using an external voltage divider that generates 1.22V at the pin for the desired output voltage. The 5V fixed output voltage parts have the divider included on the chip and (See Datasheet)", 13 NC "No Connection.", 14 SYNC (in) "The SYNC pin is used to synchronize the internal oscillator to an external signal. It is directly logic compatible and can be driven with any signal between 10% and 90% duty cycle. The synchronizing range is equal to initial (See Datasheet)", 15 ~{SHDN} (in) "The S\H\D\N\ pin is used to turn off the regulator and to reduce input drain current to a few microamperes. This pin has two thresholds: one at 2.38V to disable switching and a second at 0.4V to force complete  micropower (See Datasheet)", 16 GND (power) "The GND pin connections act as the reference for the regulated output, so load regulation will suffer if the ground end of the load is not at the  same voltage as the GND pins of the IC. This condition will occur when load (See Datasheet)", 17 EP (power) "The GND pin connections act as the reference for the regulated output, so load regulation will suffer if the ground end of the load is not at the  same voltage as the GND pins of the IC. This condition will occur when load (See Datasheet)"

## LT1766EFE-5
designator U?
1.5 A, 200 kHz Step-Down Switching Regulator, 16-pin SOP (FE-16-EPV-BB), 0 to 125 degC; Manufacturer: Linear Technology; PartNumber: LT1766EFE-5; Frequency Sync Range: 228kHz - 700kHz; Number of Outputs: 1; DatasheetVersion: Rev. C; PackageVersion: Rev. J, 11/2012; PackageReference: FE-16; PackageDescription: 16-Pin Plastic TSSOP, Body 5 x 4.4 mm, Pitch 0.65 mm; Supplier 1: Digi-Key; Supplier Part Number 1: LT1766EFE-5-ND; RoHS: FALSE; Mounting Technology: Surface Mount; ComponentLink1Description: Manufacturer URL; ComponentLink1URL: http://www.linear.com/; ComponentLink2Description: Datasheet; ComponentLink2URL: http://cds.linear.com/docs/en/datasheet/1766fc.pdf; ComponentLink3Description: Package Specification; ComponentLink3URL: http://cds.linear.com/docs/en/packaging/05081663__J_FE16(BB).pdf
footprint LT-FE-16-EPV-BB_N (SOP, 16-Leads, Body 5.1x4.5mm, Pitch 0.65mm, Thermal Pad 3.58x2.94mm, IPC Medium Density)
footprint LT-FE-16-EPV-BB_L (SOP, 16-Leads, Body 5.1x4.5mm, Pitch 0.65mm, Thermal Pad 3.58x2.94mm, IPC High Density)
footprint LT-FE-16-EPV-BB_M (SOP, 16-Leads, Body 5.1x4.5mm, Pitch 0.65mm, Thermal Pad 3.58x2.94mm, IPC Low Density)
pins: 1 GND (power) "The GND pin connections act as the reference for the regulated output, so load regulation will suffer if the ground end of the load is not at the  same voltage as the GND pins of the IC. This condition will occur when load (See Datasheet)", 2 SW (power) "The switch pin is the emitter of the on-chip power NPN switch. This pin is driven up to the input pin voltage during switch on-time. Inductor current drives the switch pin negative during switch off-time. Negative voltage is (See Datasheet)", 3 NC "No Connection.", 4 VIN (power) "This is the collector of the on-chip power NPN switch. VIN powers the internal control circuitry when a voltage on the BIAS pin is not present. High dI/dt edges occur on this pin during switch turn on and off. Keep the path (See Datasheet)", 5 NC "No Connection.", 6 BOOST "The BOOST pin is used to provide a drive voltage, higher than the input voltage, to the internal bipolar NPN power switch. Without this added voltage, the typical switch voltage loss would be about 1.5V. The additional BOOST (See Datasheet)", 7 NC "No Connection.", 8 GND (power) "The GND pin connections act as the reference for the regulated output, so load regulation will suffer if the ground end of the load is not at the  same voltage as the GND pins of the IC. This condition will occur when load (See Datasheet)", 9 GND (power) "The GND pin connections act as the reference for the regulated output, so load regulation will suffer if the ground end of the load is not at the  same voltage as the GND pins of the IC. This condition will occur when load (See Datasheet)", 10 BIAS (power) "The BIAS pin is used to improve ef?ciency when operating at higher input voltages and light load current. Connecting this pin to the regulated output voltage forces most of the internal circuitry to draw its operating (See Datasheet)", 11 VC, 12 SENSE (in) "The feedback pin is used to set the output voltage using an external voltage divider that generates 1.22V at the pin for the desired output voltage. The 5V fixed output voltage parts have the divider included on the chip and (See Datasheet)", 13 NC "No Connection.", 14 SYNC (in) "The SYNC pin is used to synchronize the internal oscillator to an external signal. It is directly logic compatible and can be driven with any signal between 10% and 90% duty cycle. The synchronizing range is equal to initial (See Datasheet)", 15 ~{SHDN} (in) "The S\H\D\N\ pin is used to turn off the regulator and to reduce input drain current to a few microamperes. This pin has two thresholds: one at 2.38V to disable switching and a second at 0.4V to force complete  micropower (See Datasheet)", 16 GND (power) "The GND pin connections act as the reference for the regulated output, so load regulation will suffer if the ground end of the load is not at the  same voltage as the GND pins of the IC. This condition will occur when load (See Datasheet)", 17 EP (power) "The GND pin connections act as the reference for the regulated output, so load regulation will suffer if the ground end of the load is not at the  same voltage as the GND pins of the IC. This condition will occur when load (See Datasheet)"